# Altium schematic symbol library Schlib1.SchLib: 6 symbols
Pins are listed as number, name and electrical type; pins without a type are passive.

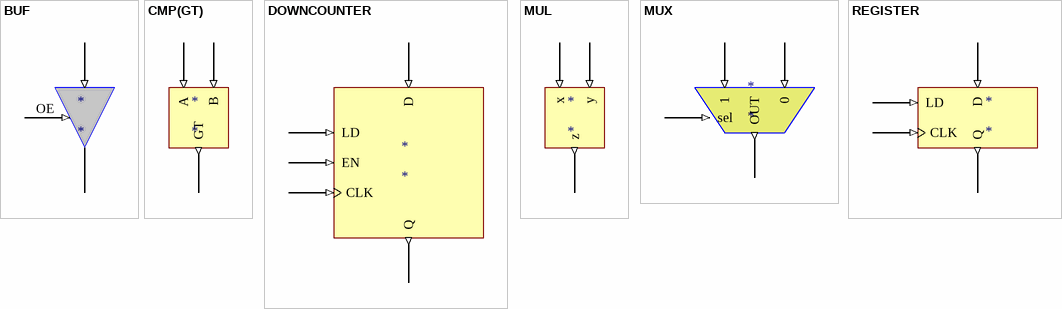
[diagram p0: symbols BUF to REGISTER]

## BUF
designator *
pins: I (in), O (hiz), OE (in)

## CMP(GT)
designator *
pins: A (in), B (in), GT (out)

## DOWNCOUNTER
designator *
pins: 47 CLK (in), D (in), EN (in), LD (in), Q (out)

## MUL
designator *
pins: 52 x (in), 53 y (in), 54 z (out)

## MUX
designator *
pins: 0 (in), 1 (in), OUT (out), SEL sel (in)

## REGISTER
designator *
pins: 49 D (in), 50 Q (out), 51 CLK (in), LD (in)